# Altium schematic symbol library ESP.SchLib: 1 symbol
Pins are listed as number, name and electrical type; pins without a type are passive.

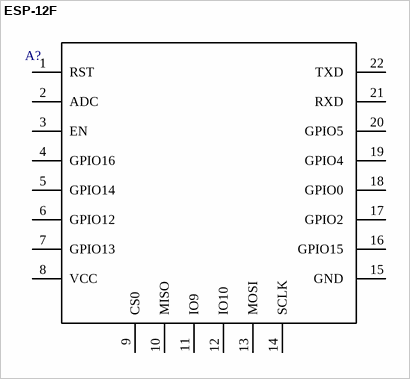
[diagram p0: symbol ESP-12F]

## ESP-12F
designator A?  (value not drawn)
Rem: *; Package: *; Value: *; Tolerance: *; Power/Voltage: *; TKE: *; ManufacturerPartNumber: *; Manufacturer: *; Quantity: *; Примечание: *
pins: 1 RST , 2 ADC , 3 EN , 4 GPIO16 , 5 GPIO14 , 6 GPIO12 , 7 GPIO13 , 8 VCC , 9 CS0 , 10 MISO , 11 IO9 , 12 IO10 , 13 MOSI , 14 SCLK , 15 GND , 16 GPIO15 , 17 GPIO2 , 18 GPIO0 , 19 GPIO4 , 20 GPIO5 , 21 RXD , 22 TXD 